# EAGLE library part DIP-WHITE-MALE-HEADER-VERT(20P-2.54) (library Seeed-OPL-Connector)
320020041
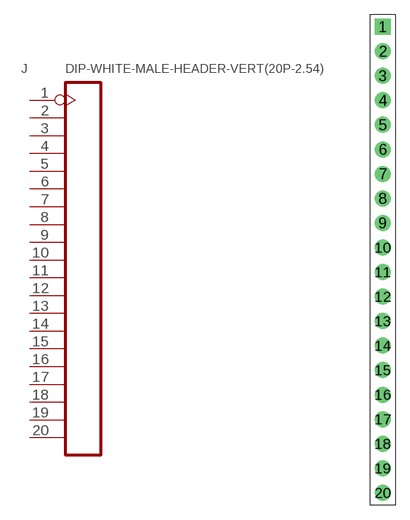
[diagram p155: symbol with the pads of H20-2.54; footprint H20-2.54]

Designator prefix J

## DIP-WHITE-MALE-HEADER-VERT(20P-2.54) (MPN: P125-1120A0BASYA1; VALUE: P125-1120A0BASYA1)  [H20-2.54]
1  1  pas
2  2  pas
3  3  pas
4  4  pas
5  5  pas
6  6  pas
7  7  pas
8  8  pas
9  9  pas
10  10  pas
11  11  pas
12  12  pas
13  13  pas
14  14  pas
15  15  pas
16  16  pas
17  17  pas
18  18  pas
19  19  pas
20  20  pas

## Footprint H20-2.54 (pad centres in mm)
drill 0.889 pad 1.651 square: 1 0,24.13
drill 0.889 pad 1.651: 2 0,21.59; 3 0,19.05; 4 0,16.51; 5 0,13.97; 6 0,11.43; 7 0,8.89; 8 0,6.35; 9 0,3.81; 10 0,1.27; 11 0,-1.27; 12 0,-3.81; 13 0,-6.35; 14 0,-8.89; 15 0,-11.43; 16 0,-13.97; 17 0,-16.51; 18 0,-19.05; 19 0,-21.59; 20 0,-24.13